# Altium footprint library QFN40P600X600X100-53N.PcbLib: 1 footprints
Each footprint in its own frame and in the unit in brackets; x right, y up, seen from the top. Pads: shape width x height; smd on the part's side, far side on the other; paste and mask are expansions set on the pad; w line width, h text height; cw(c..) or ccw(c..) is an arc to the next point about the centre after c.
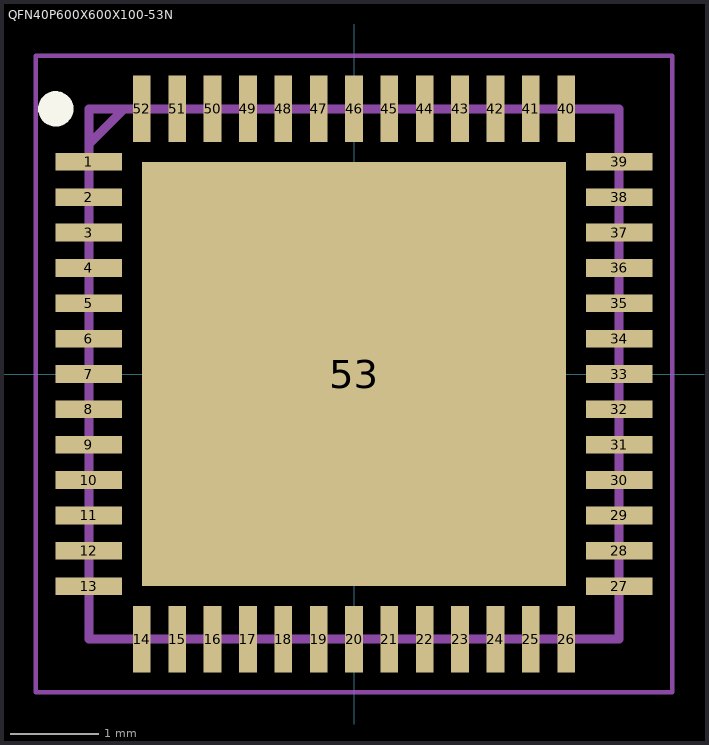
[diagram p0: the footprint, top view; thin cyan lines are the x and y axes]

## QFN40P600X600X100-53N [mm]
pads (53):
  rect 0.75x0.2 smd: 1(-3,2.4) 2(-3,2) 3(-3,1.6) 4(-3,1.2) 5(-3,0.8) 6(-3,0.4) 7(-3,0) 8(-3,-0.4) 9(-3,-0.8) 10(-3,-1.2) 11(-3,-1.6) 12(-3,-2) 13(-3,-2.4) 27(3,-2.4) 28(3,-2) 29(3,-1.6) 30(3,-1.2) 31(3,-0.8) 32(3,-0.4) 33(3,0) 34(3,0.4) 35(3,0.8) 36(3,1.2) 37(3,1.6) 38(3,2) 39(3,2.4)
  rect 0.2x0.75 smd: 14(-2.4,-3) 15(-2,-3) 16(-1.6,-3) 17(-1.2,-3) 18(-0.8,-3) 19(-0.4,-3) 20(0,-3) 21(0.4,-3) 22(0.8,-3) 23(1.2,-3) 24(1.6,-3) 25(2,-3) 26(2.4,-3) 40(2.4,3) 41(2,3) 42(1.6,3) 43(1.2,3) 44(0.8,3) 45(0.4,3) 46(0,3) 47(-0.4,3) 48(-0.8,3) 49(-1.2,3) 50(-1.6,3) 51(-2,3) 52(-2.4,3)
  rect 4.8x4.8 smd: 53(0,0)
Top Overlay:
  circle w0.2: c-3.375,3 r0.1
Mechanical 15:
  lines w0.1: -3,2.6 -2.6,3 ; -3,-3 3,-3 3,3 -3,3 -3,-3
Mechanical 20:
  lines w0.05: -3.6,-3.6 3.6,-3.6 3.6,3.6 -3.6,3.6 -3.6,-3.6
3D body "NCP81233MNTXG.stp": height 5.8, standoff -4.65, extent -10,-3.376 10,3.376